# Altium footprint library Actuator_Base_Board.PcbLib: 18 footprints (part 2 of 2)
Each footprint in its own frame and in the unit in brackets; x right, y up, seen from the top. Pads: shape width x height; smd on the part's side, far side on the other; paste and mask are expansions set on the pad; w line width, h text height; cw(c..) or ccw(c..) is an arc to the next point about the centre after c.
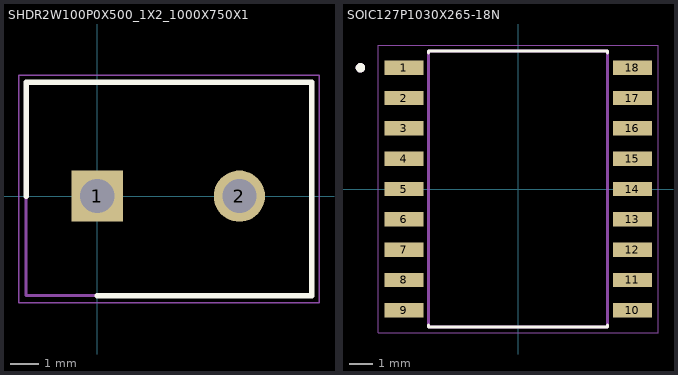
[diagram p1: the footprints below, top view; thin cyan lines are the x and y axes]

## SHDR2W100P0X500_1X2_1000X750X1 [mm]
pads (2):
  rect 1.8x1.8 hole 1.2: 1(0,0)
  round 1.8 hole 1.2: 2(5,0)
Top Overlay:
  lines w0.2: -2.5,0 -2.5,4 7.55,4 7.55,-3.5 0,-3.5
Mechanical 13:
  lines w0.05: -2.75,-3.75 7.8,-3.75 7.8,4.25 -2.75,4.25 -2.75,-3.75
  lines w0.1: -2.5,-3.5 7.55,-3.5 7.55,4 -2.5,4 -2.5,-3.5

## SOIC127P1030X265-18N [mm]
height 2.65
pads (18):
  rect 1.64x0.6 smd: 1(-4.79,5.08) 2(-4.79,3.81) 3(-4.79,2.54) 4(-4.79,1.27) 5(-4.79,0) 6(-4.79,-1.27) 7(-4.79,-2.54) 8(-4.79,-3.81) 9(-4.79,-5.08) 10(4.79,-5.08) 11(4.79,-3.81) 12(4.79,-2.54) 13(4.79,-1.27) 14(4.79,0) 15(4.79,1.27) 16(4.79,2.54) 17(4.79,3.81) 18(4.79,5.08)
Top Overlay:
  circle w0.2: c-6.61,5.08 r0.1
  lines w0.127: -3.75,-5.7 -3.75,-5.775 3.75,-5.775 3.75,-5.7 ; -3.75,5.7 -3.75,5.775 3.75,5.775 3.75,5.7
Mechanical 13:
  circle w0.2: c-6.61,5.08 r0.1
  lines w0.127: -3.75,-5.775 -3.75,5.775 3.75,5.775 3.75,-5.775 -3.75,-5.775
Top Courtyard:
  lines w0.05: -5.86,-6.025 5.86,-6.025 5.86,6.025 -5.86,6.025 -5.86,-6.025
3D body "step_temp.STEP": height 2.64, standoff 0, extent -5.779,-5.156 5.779,5.156